# EAGLE library part ARDUINO_NANO_DEV (library Arduini_Nano)
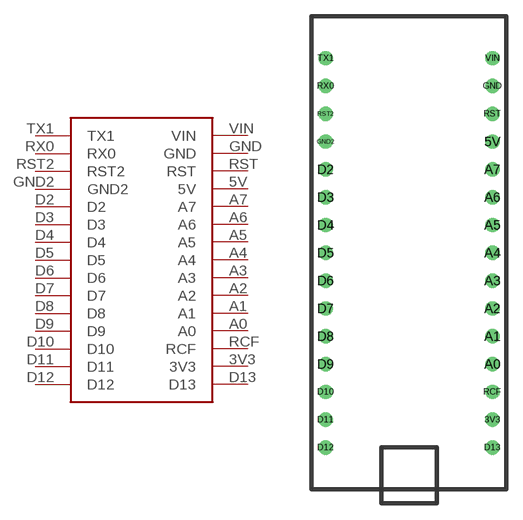
[diagram p0: symbol with the pads of NANO_PACK; footprint NANO_PACK]

Designator prefix -

## ARDUINO_NANO_DEV  [NANO_PACK]
3V3  3V3
5V  5V
A0  A0
A1  A1
A2  A2
A3  A3
A4  A4
A5  A5
A6  A6
A7  A7
D2  D2
D3  D3
D4  D4
D5  D5
D6  D6
D7  D7
D8  D8
D9  D9
D10  D10
D11  D11
D12  D12
D13  D13
GND  GND
GND2  GND2
RCF  RCF
RST  RST
RST2  RST2
RX0  RX0
TX1  TX1
VIN  VIN

## Footprint NANO_PACK (pad centres in mm)
drill 0.8: 3V3 7.62,-15.24; 5V 7.62,10.16; A0 7.62,-10.16; A1 7.62,-7.62; A2 7.62,-5.08; A3 7.62,-2.54; A4 7.62,0; A5 7.62,2.54; A6 7.62,5.08; A7 7.62,7.62; D2 -7.62,7.62; D3 -7.62,5.08; D4 -7.62,2.54; D5 -7.62,0; D6 -7.62,-2.54; D7 -7.62,-5.08; D8 -7.62,-7.62; D9 -7.62,-10.16; D10 -7.62,-12.7; D11 -7.62,-15.24; D12 -7.62,-17.78; D13 7.62,-17.78; GND 7.62,15.24; GND2 -7.62,10.16; RCF 7.62,-12.7; RST 7.62,12.7; RST2 -7.62,12.7; RX0 -7.62,15.24; TX1 -7.62,17.78; VIN 7.62,17.78